# Altium schematic symbol library adafruit.SCHLIB: 884 symbols (part 15 of 15)
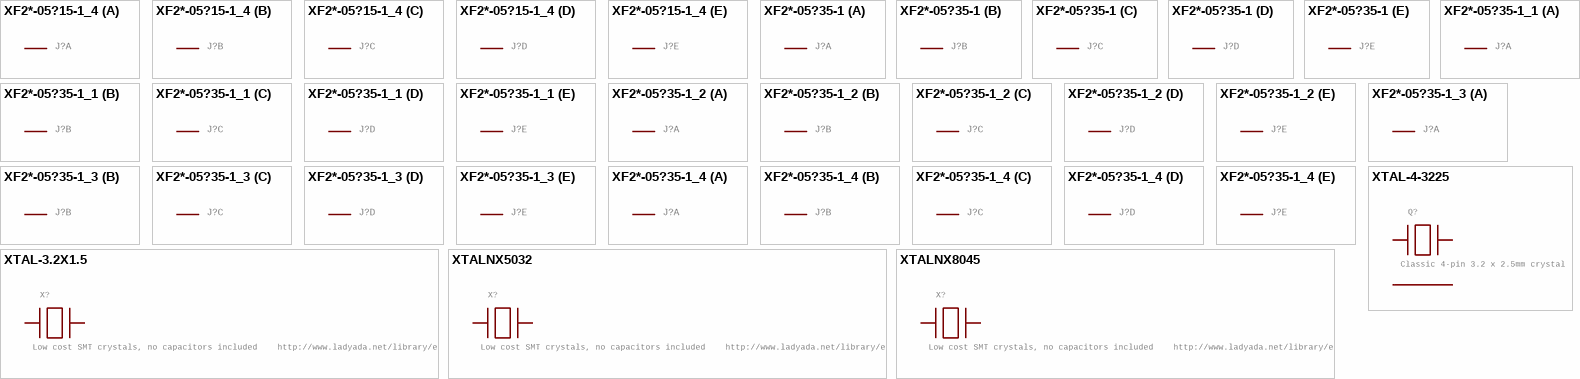
[diagram p202: symbols XF2*-05?15-1_4 to XTALNX8045]

## XF2*-05?15-1_4
designator J?, comment OMRON FPC Connector   Source : http://www.omron.com/ecb/products/pdf/fpc.pdf  (value not drawn)
GateName_1: -1; SymbolName_1: PV; GateName_2: -2; SymbolName_2: P; GateName_3: -3; GateName_4: -4; GateName_5: -5; DeviceName: 15-1; DeviceSetName: XF2*-05?; SymbolName_3: P; SymbolName_4: P; SymbolName_5: P; LibraryName: adafruit; Package: XF2E-0515-1
footprint XF2E-0515-1
part A pins: 1 MSV
part B pins: 2 MS
part C pins: 3 MS
part D pins: 4 MS
part E pins: 5 MS

## XF2*-05?35-1
designator J?, comment OMRON FPC Connector   Source : http://www.omron.com/ecb/products/pdf/fpc.pdf  (value not drawn)
GateName_1: -1; SymbolName_1: PV; GateName_2: -2; SymbolName_2: P; GateName_3: -3; GateName_4: -4; GateName_5: -5; DeviceName: 35-1; DeviceSetName: XF2*-05?; SymbolName_3: P; SymbolName_4: P; SymbolName_5: P; LibraryName: adafruit; Package: XF2L-0535-1
footprint XF2L-0535-1
part A pins: 1 MSV
part B pins: 2 MS
part C pins: 3 MS
part D pins: 4 MS
part E pins: 5 MS

## XF2*-05?35-1_1
designator J?, comment OMRON FPC Connector   Source : http://www.omron.com/ecb/products/pdf/fpc.pdf  (value not drawn)
GateName_1: -1; SymbolName_1: PV; GateName_2: -2; SymbolName_2: P; GateName_3: -3; GateName_4: -4; GateName_5: -5; DeviceName: 35-1; DeviceSetName: XF2*-05?; SymbolName_3: P; SymbolName_4: P; SymbolName_5: P; LibraryName: adafruit; Package: XF2L-0535-1
footprint XF2L-0535-1
part A pins: 1 MSV
part B pins: 2 MS
part C pins: 3 MS
part D pins: 4 MS
part E pins: 5 MS

## XF2*-05?35-1_2
designator J?, comment OMRON FPC Connector   Source : http://www.omron.com/ecb/products/pdf/fpc.pdf  (value not drawn)
GateName_1: -1; SymbolName_1: PV; GateName_2: -2; SymbolName_2: P; GateName_3: -3; GateName_4: -4; GateName_5: -5; DeviceName: 35-1; DeviceSetName: XF2*-05?; SymbolName_3: P; SymbolName_4: P; SymbolName_5: P; LibraryName: adafruit; Package: XF2L-0535-1
footprint XF2L-0535-1
part A pins: 1 MSV
part B pins: 2 MS
part C pins: 3 MS
part D pins: 4 MS
part E pins: 5 MS

## XF2*-05?35-1_3
designator J?, comment OMRON FPC Connector   Source : http://www.omron.com/ecb/products/pdf/fpc.pdf  (value not drawn)
GateName_1: -1; SymbolName_1: PV; GateName_2: -2; SymbolName_2: P; GateName_3: -3; GateName_4: -4; GateName_5: -5; DeviceName: 35-1; DeviceSetName: XF2*-05?; SymbolName_3: P; SymbolName_4: P; SymbolName_5: P; LibraryName: adafruit; Package: XF2L-0535-1
footprint XF2L-0535-1
part A pins: 1 MSV
part B pins: 2 MS
part C pins: 3 MS
part D pins: 4 MS
part E pins: 5 MS

## XF2*-05?35-1_4
designator J?, comment OMRON FPC Connector   Source : http://www.omron.com/ecb/products/pdf/fpc.pdf  (value not drawn)
GateName_1: -1; SymbolName_1: PV; GateName_2: -2; SymbolName_2: P; GateName_3: -3; GateName_4: -4; GateName_5: -5; DeviceName: 35-1; DeviceSetName: XF2*-05?; SymbolName_3: P; SymbolName_4: P; SymbolName_5: P; LibraryName: adafruit; Package: XF2L-0535-1
footprint XF2L-0535-1
part A pins: 1 MSV
part B pins: 2 MS
part C pins: 3 MS
part D pins: 4 MS
part E pins: 5 MS

## XTAL-3.2X1.5
designator X?, comment Low cost SMT crystals, no capacitors included    http://www.ladyada.net/library/eagle
GateName_1: G$1; SymbolName_1: XTAL; DeviceName: -3.2X1.5; LibraryName: adafruit; DeviceSetName: XTAL; Package: XTAL3215
footprint XTAL3215
pins: P$1 (io), P$2 (io)

## XTAL-4-3225
designator Q?, comment Classic 4-pin 3.2 x 2.5mm crystal
GateName_1: G$1; SymbolName_1: XTAL-4; DeviceName: -3225; LibraryName: adafruit; DeviceSetName: XTAL-4; Package: NX3225
footprint NX3225
pins: 1 X1 (io), 2 G2 (power), 3 X2 (io), 4 G1 (power)

## XTALNX5032
designator X?, comment Low cost SMT crystals, no capacitors included    http://www.ladyada.net/library/eagle
GateName_1: G$1; SymbolName_1: XTAL; DeviceName: NX5032; LibraryName: adafruit; DeviceSetName: XTAL; Package: NX5032
footprint NX5032
pins: P$1 (io), P$2 (io)

## XTALNX8045
designator X?, comment Low cost SMT crystals, no capacitors included    http://www.ladyada.net/library/eagle
GateName_1: G$1; SymbolName_1: XTAL; DeviceName: NX8045; LibraryName: adafruit; DeviceSetName: XTAL; Package: NX8045
footprint NX8045
pins: P$1 (io), P$2 (io)